# Altium footprint library Custom Library.PcbLib: 35 footprints (part 2 of 3)
Each footprint in its own frame and in the unit in brackets; x right, y up, seen from the top. Pads: shape width x height; smd on the part's side, far side on the other; paste and mask are expansions set on the pad; w line width, h text height; cw(c..) or ccw(c..) is an arc to the next point about the centre after c.
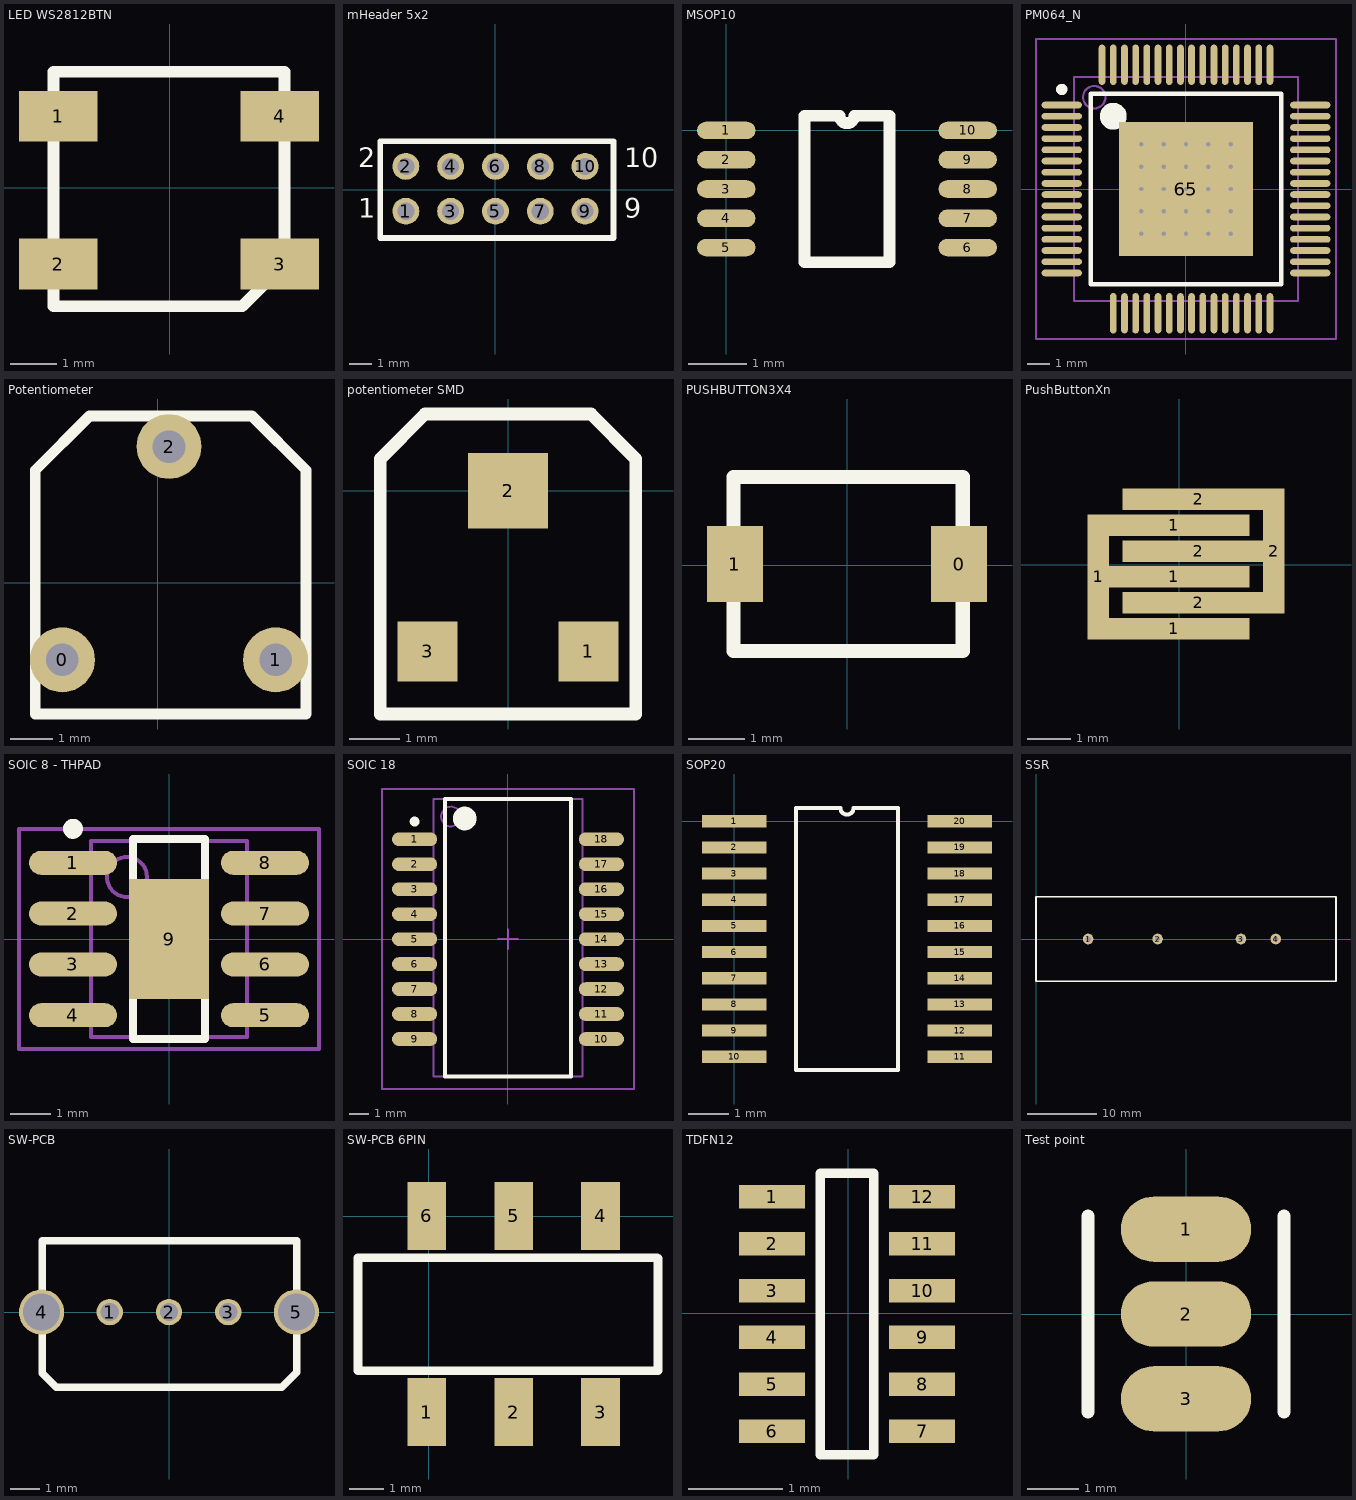
[diagram p1: the footprints below, top view; thin cyan lines are the x and y axes]

## LED WS2812BTN [mm] "Intelligent control LED  integrated light source"
pads (4):
  rect 1.7x1.1 smd: 1(-2.413,1.549) 2(-2.413,-1.651) 3(2.388,-1.651) 4(2.388,1.549)
Top Overlay:
  lines w0.254: -2.515,-2.565 1.575,-2.565 2.489,-1.651 2.489,2.515 -2.515,2.515 -2.515,-2.489

## mHeader 5x2 [mm] "2mm pitch"
pads (10):
  round 1.2 hole 0.762: 1(-3.988,-0.965) 2(-3.988,1.035) 3(-1.988,-0.965) 4(-1.988,1.035) 5(0.012,-0.965) 6(0.012,1.035) 7(2.012,-0.965) 8(2.012,1.035) 9(4.012,-0.965) 10(4.012,1.035)
Top Overlay:
  lines w0.254: -5.131,-2.159 5.283,-2.159 5.283,2.159 -5.131,2.159 -5.131,1.727 -5.131,-2.159
  text "10" at 5.766,0.711 h1.5
  text "9" at 5.766,-1.549 h1.5
  text "2" at -6.121,0.711 h1.5
  text "1" at -6.121,-1.549 h1.5

## MSOP10 [mm] "MSOP 10 pitch 0.5mm"
pads (10):
  oval 1x0.3 smd: 1(0,0) 2(0,-0.5) 3(0,-1) 4(0,-1.5) 5(0,-2) 6(4.125,-2) 7(4.125,-1.5) 8(4.125,-1) 9(4.125,-0.5) 10(4.125,0)
Top Overlay:
  lines w0.2: 1.335,-2.25 1.335,0.25 1.938,0.25 ccw(c2.063,0.25) 2.187,0.25 2.79,0.25 2.79,-2.25 1.335,-2.25

## PM064_N [mm] "64-Pin Thin Quad Flat Pack 0.5 mm Pitch, IPC Medium Density"
height 1.6
pads (65):
  oval 1.8x0.3 smd: 1(-5.55,3.75) 2(-5.55,3.25) 3(-5.55,2.75) 4(-5.55,2.25) 5(-5.55,1.75) 6(-5.55,1.25) 7(-5.55,0.75) 8(-5.55,0.25) 9(-5.55,-0.25) 10(-5.55,-0.75) 11(-5.55,-1.25) 12(-5.55,-1.75) 13(-5.55,-2.25) 14(-5.55,-2.75) 15(-5.55,-3.25) 16(-5.55,-3.75) 33(5.55,-3.75) 34(5.55,-3.25) 35(5.55,-2.75) 36(5.55,-2.25) 37(5.55,-1.75) 38(5.55,-1.25) 39(5.55,-0.75) 40(5.55,-0.25) 41(5.55,0.25) 42(5.55,0.75) 43(5.55,1.25) 44(5.55,1.75) 45(5.55,2.25) 46(5.55,2.75) 47(5.55,3.25) 48(5.55,3.75)
  oval 0.3x1.8 smd: 17(2.54,1.34) 18(-3.25,-5.55) 19(-2.75,-5.55) 20(-2.25,-5.55) 21(-1.75,-5.55) 22(-1.25,-5.55) 23(-0.75,-5.55) 24(-0.25,-5.55) 25(0.25,-5.55) 26(0.75,-5.55) 27(1.25,-5.55) 28(1.75,-5.55) 29(2.25,-5.55) 30(2.75,-5.55) 31(3.25,-5.55) 32(3.75,-5.55) 49(3.75,5.55) 50(3.25,5.55) 51(2.75,5.55) 52(2.25,5.55) 53(1.75,5.55) 54(1.25,5.55) 55(0.75,5.55) 56(0.25,5.55) 57(-0.25,5.55) 58(-0.75,5.55) 59(-1.25,5.55) 60(-1.75,5.55) 61(-2.25,5.55) 62(-2.75,5.55) 63(-3.25,5.55) 64(-3.75,5.55)
  rect 6x6 smd: 65(0,0)
via -2,2 diameter 0.25 hole 0.2
via -1,2 diameter 0.25 hole 0.2
via 0,2 diameter 0.25 hole 0.2
via 1,2 diameter 0.25 hole 0.2
via 2,2 diameter 0.25 hole 0.2
via -2,1 diameter 0.25 hole 0.2
via -1,1 diameter 0.25 hole 0.2
via 0,1 diameter 0.25 hole 0.2
via 1,1 diameter 0.25 hole 0.2
via 2,1 diameter 0.25 hole 0.2
via -2,0 diameter 0.25 hole 0.2
via -1,0 diameter 0.25 hole 0.2
via 0,0 diameter 0.25 hole 0.2
via 1,0 diameter 0.25 hole 0.2
via 2,0 diameter 0.25 hole 0.2
via -2,-1 diameter 0.25 hole 0.2
via -1,-1 diameter 0.25 hole 0.2
via 0,-1 diameter 0.25 hole 0.2
via 1,-1 diameter 0.25 hole 0.2
via 2,-1 diameter 0.25 hole 0.2
via -2,-2 diameter 0.25 hole 0.2
via -1,-2 diameter 0.25 hole 0.2
via 0,-2 diameter 0.25 hole 0.2
via 1,-2 diameter 0.25 hole 0.2
via 2,-2 diameter 0.25 hole 0.2
Top Overlay:
  circle w0.6: c-3.25,3.25 r0.3
  circle w0.25: c-5.55,4.45 r0.125
  lines w0.2: -4.25,-4.25 4.25,-4.25 4.25,4.25 -4.25,4.25 -4.25,-4.25
Mechanical 13:
  circle w0.1: c-4.1,4.1 r0.5
  lines w0.1: -5,-5 5,-5 5,5 -5,5 -5,-5
Mechanical 15:
  lines w0.1: -0.5,0 0.5,0 ; 0,-0.5 0,0.5 ; -6.7,-6.7 6.7,-6.7 6.7,6.7 -6.7,6.7 -6.7,-6.7
3D body: height 1.6, standoff 0, extent -5,-5 5,5

## Potentiometer [mil] "THT"
pads (3):
  round 60 hole 30: 0(-88,-71) 1(108.85,-71) 2(10.43,125.85)
Top Overlay:
  lines w10: -113,-121 -113,104 -63,154 87,154 137,104 137,-121 -113,-121

## potentiometer SMD [mm] "SMD"
pads (3):
  rect 1.2x1.2 smd: 1(1.6,-3.2) 3(-1.6,-3.2)
  rect 1.6x1.5 smd: 2(0,0)
Top Overlay:
  lines w0.254: -2.54,-4.445 2.54,-4.445 2.54,0.635 1.651,1.524 -1.651,1.524 -2.54,0.635 -2.54,-4.445

## PUSHBUTTON3X4 [mm]
pads (2):
  rect 1x1.35 smd: 0(1.993,0.025) 1(-2.007,0.025)
Top Overlay:
  lines w0.254: -2.032,-1.524 -2.032,1.575 2.057,1.575 2.057,-1.524 -2.032,-1.524

## PushButtonXn [mm]
pads (8):
  rect 0.5x2.9 smd: 1(-1.88,-0.285) 2(2.184,0.315)
  rect 3.5x0.5 smd: 1(-0.127,-1.486) 1(-0.127,-0.286) 1(-0.127,0.914) 2(0.432,-0.886) 2(0.432,0.314) 2(0.432,1.514)

## SOIC 8 - THPAD [mm] "8-Pin Small Outline Integrated Circuit 1.27 mm Pitch, IPC Medium Density"
height 1.73
pads (9):
  oval 2.2x0.6 smd: 1(-2.4,1.905) 2(-2.4,0.635) 3(-2.4,-0.635) 4(-2.4,-1.905) 5(2.4,-1.905) 6(2.4,-0.635) 7(2.4,0.635) 8(2.4,1.905)
  rect 2x3 smd: 9(0,0)
Top Overlay:
  circle w0.25: c-2.4,2.755 r0.125
  lines w0.2: -0.9,-2.5 -0.9,2.5 0.9,2.5 0.9,-2.5 -0.9,-2.5
Mechanical 13:
  circle w0.1: c-1.05,1.55 r0.5
  lines w0.1: -1.95,-2.45 -1.95,2.45 1.95,2.45 1.95,-2.45 -1.95,-2.45
Mechanical 15:
  lines w0.1: -0.5,0 0.5,0 ; 0,-0.5 0,0.5 ; -3.75,-2.75 -3.75,2.75 3.75,2.75 3.75,-2.75 -3.75,-2.75
3D body: height 1.73, standoff 0, extent -1.95,-2.45 1.95,2.45

## SOIC 18 [mm] "16-Pin Small Outline Integrated Circuit 1.27 mm Pitch, IPC Low Density"
height 2.68
pads (18):
  oval 2.3x0.7 smd: 1(-4.75,5.08) 2(-4.75,3.81) 3(-4.75,2.54) 4(-4.75,1.27) 5(-4.75,0) 6(-4.75,-1.27) 7(-4.75,-2.54) 8(-4.75,-3.81) 9(-4.75,-5.08) 10(4.75,-5.08) 11(4.75,-3.81) 12(4.75,-2.54) 13(4.75,-1.27) 14(4.75,0) 15(4.75,1.27) 16(4.75,2.54) 17(4.75,3.81) 18(4.75,5.08)
Top Overlay:
  circle w0.25: c-4.75,5.98 r0.125
  circle w0.6: c-2.2,6.135 r0.3
  lines w0.2: -3.2,-6.985 -3.2,7.135 3.2,7.135 3.2,-6.985 -3.2,-6.985
Mechanical 13:
  circle w0.1: c-2.9,6.235 r0.5
  lines w0.1: -3.8,-6.985 -3.8,7.135 3.8,7.135 3.8,-6.985 -3.8,-6.985
Mechanical 15:
  lines w0.1: -0.5,0 0.5,0 ; 0,-0.5 0,0.5 ; -6.4,-7.62 -6.4,7.635 6.4,7.635 6.4,-7.62 -6.4,-7.62
3D body: height 2.68, standoff 0, extent -3.8,-6.985 3.8,7.135

## SOP20 [mm]
pads (20):
  rect 1.6x0.3 smd: 1(0,0) 2(0,-0.65) 3(0,-1.3) 4(0,-1.95) 5(0,-2.6) 6(0,-3.25) 7(0,-3.9) 8(0,-4.55) 9(0,-5.2) 10(0,-5.85) 11(5.6,-5.85) 12(5.6,-5.2) 13(5.6,-4.55) 14(5.6,-3.9) 15(5.6,-3.25) 16(5.6,-2.6) 17(5.6,-1.95) 18(5.6,-1.3) 19(5.6,-0.65) 20(5.6,0)
Top Overlay:
  lines w0.1: 1.535,-6.175 1.535,0.325 2.638,0.325 ccw(c2.8,0.325) 2.962,0.325 4.065,0.325 4.065,-6.175 1.535,-6.175

## SSR [mil] "HHG1D-1"
pads (4):
  round 60 hole 30: 1(295.28,0) 2(688.98,0) 3(1161.42,0) 4(1358.27,0)
Top Overlay:
  lines w10: 0,-240 0,0 0,240 1700,240 1700,-240 0,-240

## SW-PCB [mil] "1P2T 90 Angle Horizontal Slide"
pads (5):
  round 35 hole 24: 1(-78.75,0) 2(0,0) 3(78.75,0)
  round 60 hole 49.2: 4(-169.29,0) 5(169.29,0)
Top Overlay:
  lines w10: -168.58,-81.42 -168.58,-75 -168.58,95 170,95 170,-80 150,-100 -150,-100 -168.58,-81.42

## SW-PCB 6PIN [mil] "2P2T 6PIN"
pads (6):
  rect 44x77 smd: 1(-2,-222) 2(96.43,-222) 3(194.85,-222) 4(194.85,0.45) 5(96.43,0.45) 6(-2,0.45)
Top Overlay:
  lines w10: 257,-175 -80,-175 -80,-47 259,-47 ; 260,-175 260,-48

## TDFN12 [mm]
pads (12):
  rect 0.7x0.25 smd: 1(-0.813,1.245) 2(-0.813,0.745) 3(-0.813,0.245) 4(-0.813,-0.255) 5(-0.813,-0.755) 6(-0.813,-1.255) 7(0.787,-1.255) 8(0.787,-0.755) 9(0.787,-0.255) 10(0.787,0.245) 11(0.787,0.745) 12(0.787,1.245)
Top Overlay:
  lines w0.1: -0.138,1.495 0.272,1.495 0.272,-1.505 -0.298,-1.505 -0.298,1.495 0.112,1.495
  text "." at -0.635,1.778 h0.2

## Test point [mil] "Test point 3 oads"
pads (3):
  oval 100x50 smd: 1(0,65) 2(0,0) 3(0,-65)
Top Overlay:
  lines w10: -75,-75 -75,75 ; 75,-75 75,75